# Altium footprint library PCB - CONNECTOR - MOLEX - MOLEX 0559350210.PcbLib: 1 footprints
Each footprint in its own frame and in the unit in brackets; x right, y up, seen from the top. Pads: shape width x height; smd on the part's side, far side on the other; paste and mask are expansions set on the pad; w line width, h text height; cw(c..) or ccw(c..) is an arc to the next point about the centre after c.
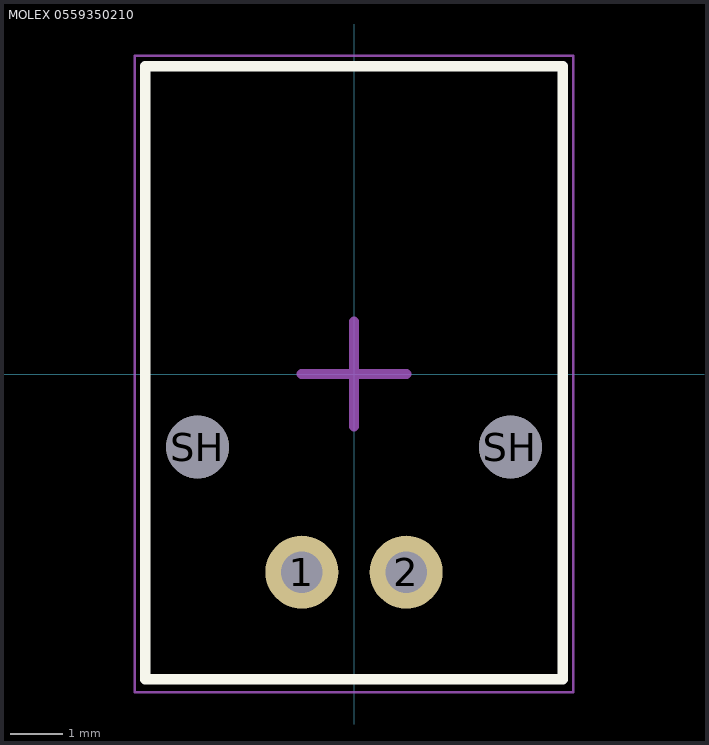
[diagram p0: the footprint, top view; thin cyan lines are the x and y axes]

## MOLEX 0559350210 [mm] "Connector Header Through Hole, Right Angle 2 position, 2mm Pitch, 11.75x8.00 mm Body"
height 6.9
pads (4):
  round 1.4 hole 0.8: 1(-1,-3.8) 2(1,-3.8)
  round 1.2 hole 1.2: SH(-3,-1.4) SH(3,-1.4)
Top Overlay:
  lines w0.2: -4,-5.85 -4,5.9 4,5.9 4,-5.85 -4,-5.85
Mechanical 13:
  lines w0.1: -4,-5.85 4,-5.85 4,5.9 -4,5.9 -4,-5.85
Mechanical 15 (Mech15):
  lines w0.05: -4.2,-6.1 4.2,-6.1 4.2,6.1 -4.2,6.1 -4.2,-6.1
  lines w0.2: -1,0 0,0 ; 0,-1 0,0 ; 0,1 0,0 ; 1,0 0,0
3D body: height 6.7, standoff -3.2, extent -4,-5.85 4,5.9